# Altium integrated library Resistors.IntLib: 47 symbols
Pins are listed as number, name and electrical type; pins without a type are passive.

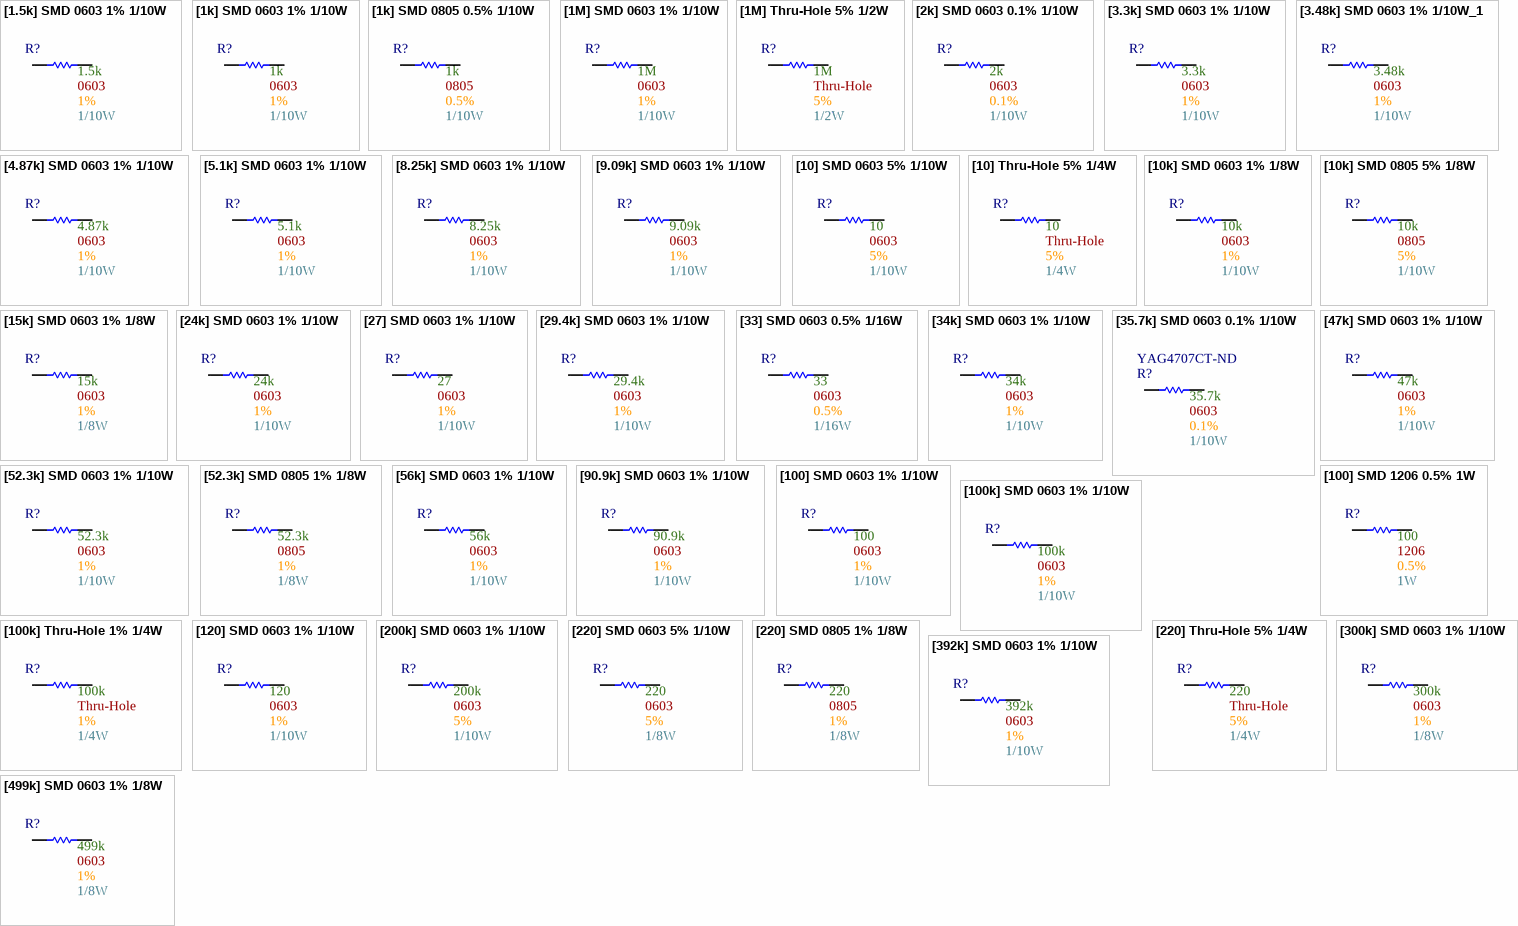
[diagram p0: symbols [1.5k] SMD 0603 1% 1/10W to [499k] SMD 0603 1% 1/8W]

## [1.5k] SMD 0603 1% 1/10W
designator R?  Wattage: 1/10W  Tolerance: 1%  Resistance: 1.5k  Size Package: 0603  (hidden comment: *)
CR0603-FX-1501ELF; Supplier 1: DigiKey; Supplier Part Number 1: 118-CR0603-FX-1501ELFCT-ND
footprint [Res] SMD 0603
pins: 1, 2

## [1k] SMD 0603 1% 1/10W
designator R?  Wattage: 1/10W  Tolerance: 1%  Resistance: 1k  Size Package: 0603  (hidden comment: *)
RMCF0603FT1K00; Supplier 1: DigiKey; Supplier Part Number 1: RMCF0603FT1K00DKR-ND
footprint [Res] SMD 0603
pins: 1, 2

## [1k] SMD 0805 0.5% 1/10W
designator R?  Wattage: 1/10W  Tolerance: 0.5%  Resistance: 1k  Size Package: 0805  (hidden comment: *)
RR1220P-102-D; Supplier 1: DigiKey; Supplier Part Number 1: RR12P1.0KDCT-ND
footprint [Res] SMD 0805
pins: 1, 2

## [1M] SMD 0603 1% 1/10W
designator R?  Wattage: 1/10W  Tolerance: 1%  Resistance: 1M  Size Package: 0603  (hidden comment: *)
RC0603FR-071ML; Supplier 1: DigiKey; Supplier Part Number 1: 311-1.00MHRDKR-ND
footprint [Res] SMD 0603
pins: 1, 2

## [1M] Thru-Hole 5% 1/2W
designator R?  Size Package: Thru-Hole  Wattage: 1/2W  Tolerance: 5%  Resistance: 1M  (hidden comment: *)
CFR-50JB-52-1M; Supplier 1: DigiKey; Supplier Part Number 1: 1.0MH-ND
footprint [Res] Thru-Hole 1/2W
pins: 1, 2

## [2k] SMD 0603 0.1% 1/10W
designator R?  Wattage: 1/10W  Tolerance: 0.1%  Resistance: 2k  Size Package: 0603  (hidden comment: *)
ERA-3ARB202V; Supplier 1: DigiKey; Supplier Part Number 1: P2.0KBDCT-ND
footprint [Res] SMD 0603
pins: 1, 2

## [3.3k] SMD 0603 1% 1/10W
designator R?  Wattage: 1/10W  Tolerance: 1%  Resistance: 3.3k  Size Package: 0603  (hidden comment: *)
RC0603FR-073K3L; Supplier 1: DigiKey; Supplier Part Number 1: 311-3.30KHRCT-ND
footprint [Res] SMD 0603
pins: 1, 2

## [3.48k] SMD 0603 1% 1/10W_1
designator R?  Wattage: 1/10W  Tolerance: 1%  Resistance: 3.48k  Size Package: 0603  (hidden comment: *)
RMCF0603FT3K48; Supplier 1: DigiKey; Supplier Part Number 1: RMCF0603FT3K48CT-ND
footprint [Res] SMD 0603
pins: 1, 2

## [4.87k] SMD 0603 1% 1/10W
designator R?  Wattage: 1/10W  Tolerance: 1%  Resistance: 4.87k  Size Package: 0603  (hidden comment: *)
CR0603-FX-4871ELF; Supplier 1: DigiKey; Supplier Part Number 1: CR0603-FX-4871ELFDKR-ND
footprint [Res] SMD 0603
pins: 1, 2

## [5.1k] SMD 0603 1% 1/10W
designator R?  Wattage: 1/10W  Tolerance: 1%  Resistance: 5.1k  Size Package: 0603  (hidden comment: *)
RC0603FR-075K1L; Supplier 1: DigiKey; Supplier Part Number 1: 311-5.10KHRCT-ND
footprint [Res] SMD 0603
pins: 1, 2

## [8.25k] SMD 0603 1% 1/10W
designator R?  Wattage: 1/10W  Tolerance: 1%  Resistance: 8.25k  Size Package: 0603  (hidden comment: *)
AF0603FR-078K25L; Supplier 1: DigiKey; Supplier Part Number 1: 13-AF0603FR-078K25LCT-ND
footprint [Res] SMD 0603
pins: 1, 2

## [9.09k] SMD 0603 1% 1/10W
designator R?  Wattage: 1/10W  Tolerance: 1%  Resistance: 9.09k  Size Package: 0603  (hidden comment: *)
RMCF0603FT9K09; Supplier 1: DigiKey; Supplier Part Number 1: RMCF0603FT9K09CT-ND
footprint [Res] SMD 0603
pins: 1, 2

## [10] SMD 0603 5% 1/10W
designator R?  Wattage: 1/10W  Tolerance: 5%  Resistance: 10  Size Package: 0603  (hidden comment: *)
RC0603JR-1310RL; Supplier 1: DigiKey; Supplier Part Number 1: 13-RC0603JR-1310RLDKR-ND
footprint [Res] SMD 0603
pins: 1, 2

## [10] Thru-Hole 5% 1/4W
designator R?  Size Package: Thru-Hole  Wattage: 1/4W  Tolerance: 5%  Resistance: 10  (hidden comment: *)
CFR-25JT-52-10R; Supplier 1: DigiKey; Supplier Part Number 1: 13-CFR-25JT-52-10RCT-ND
footprint [Res] Thru-Hole 1/4W
pins: 1, 2

## [10k] SMD 0603 1% 1/8W
designator R?  Wattage: 1/10W  Tolerance: 1%  Resistance: 10k  Size Package: 0603  (hidden comment: *)
RMCF0603FT10K0; Supplier 1: DigiKey; Supplier Part Number 1: RMCF0603FT10K0DKR-ND
footprint [Res] SMD 0603
pins: 1, 2

## [10k] SMD 0805 5% 1/8W
designator R?  Wattage: 1/10W  Tolerance: 5%  Resistance: 10k  Size Package: 0805  (hidden comment: *)
RC0603FR-0710KL; Supplier 1: DigiKey; Supplier Part Number 1: 311-10.0KHRDKR-ND
footprint [Res] SMD 0805
pins: 1, 2

## [15k] SMD 0603 1% 1/8W
designator R?  Wattage: 1/8W  Tolerance: 1%  Resistance: 15k  Size Package: 0603  (hidden comment: *)
CRCW060315K0FKEA; Supplier 1: DigiKey; Supplier Part Number 1: 541-15.0KHCT-ND
footprint [Res] SMD 0603
pins: 1, 2

## [24k] SMD 0603 1% 1/10W
designator R?  Wattage: 1/10W  Tolerance: 1%  Resistance: 24k  Size Package: 0603  (hidden comment: *)
RC0603FR-1324KL; Supplier 1: DigiKey; Supplier Part Number 1: 13-RC0603FR-1324KLCT-ND
footprint [Res] SMD 0603
pins: 1, 2

## [27] SMD 0603 1% 1/10W
designator R?  Wattage: 1/10W  Tolerance: 1%  Resistance: 27  Size Package: 0603  (hidden comment: *)
MCT06030C2709FP500; Supplier 1: DigiKey; Supplier Part Number 1: 749-1631-1-ND
footprint [Res] SMD 0603
pins: 1, 2

## [29.4k] SMD 0603 1% 1/10W
designator R?  Wattage: 1/10W  Tolerance: 1%  Resistance: 29.4k  Size Package: 0603  (hidden comment: *)
CR0603-FX-2942ELF; Supplier 1: DigiKey; Supplier Part Number 1: 118-CR0603-FX-2942ELFDKR-ND
footprint [Res] SMD 0603
pins: 1, 2

## [33] SMD 0603 0.5% 1/16W
designator R?  Wattage: 1/16W  Tolerance: 0.5%  Resistance: 33  Size Package: 0603  (hidden comment: *)
RR0816Q-330-D; Supplier 1: DigiKey; Supplier Part Number 1: RR08Q33DDKR-ND
footprint [Res] SMD 0603
pins: 1, 2

## [34k] SMD 0603 1% 1/10W
designator R?  Wattage: 1/10W  Tolerance: 1%  Resistance: 34k  Size Package: 0603  (hidden comment: *)
RC0603FR-1334KL; Supplier 1: DigiKey; Supplier Part Number 1: 13-RC0603FR-1334KLDKR-ND
footprint [Res] SMD 0603
pins: 1, 2

## [35.7k] SMD 0603 0.1% 1/10W
designator R?  Wattage: 1/10W  Tolerance: 0.1%  Resistance: 35.7k  Size Package: 0603  Supplier Part Number 1: YAG4707CT-ND  (hidden comment: *)
RT0603BRE0735K7L; Supplier 1: DigiKey
footprint [Res] SMD 0603
pins: 1, 2

## [47k] SMD 0603 1% 1/10W
designator R?  Wattage: 1/10W  Tolerance: 1%  Resistance: 47k  Size Package: 0603  (hidden comment: *)
RC0603FR-0747KL; Supplier 1: DigiKey; Supplier Part Number 1: 311-47.0KHRDKR-ND
footprint [Res] SMD 0603
pins: 1, 2

## [52.3k] SMD 0603 1% 1/10W
designator R?  Wattage: 1/10W  Tolerance: 1%  Resistance: 52.3k  Size Package: 0603  (hidden comment: *)
RC0603FR-0752K3L; Supplier 1: DigiKey; Supplier Part Number 1: 311-52.3KHRCT-ND
footprint [Res] SMD 0603
pins: 1, 2

## [52.3k] SMD 0805 1% 1/8W
designator R?  Size Package: 0805  Wattage: 1/8W  Tolerance: 1%  Resistance: 52.3k  (hidden comment: *)
RC0805FR-0752K3L; Supplier 1: DigiKey; Supplier Part Number 1: 311-52.3KCRCT-ND
footprint [Res] SMD 0805
pins: 1, 2

## [56k] SMD 0603 1% 1/10W
designator R?  Wattage: 1/10W  Tolerance: 1%  Resistance: 56k  Size Package: 0603  (hidden comment: *)
CRGCQ0603F56K; Supplier 1: DigiKey; Supplier Part Number 1: A129709CT-ND
footprint [Res] SMD 0603
pins: 1, 2

## [90.9k] SMD 0603 1% 1/10W
designator R?  Wattage: 1/10W  Tolerance: 1%  Resistance: 90.9k  Size Package: 0603  (hidden comment: *)
CR0603-FX-9092ELF; Supplier 1: DigiKey; Supplier Part Number 1: CR0603-FX-9092ELFCT-ND
footprint [Res] SMD 0603
pins: 1, 2

## [100] SMD 0603 1% 1/10W
designator R?  Wattage: 1/10W  Tolerance: 1%  Resistance: 100  Size Package: 0603  (hidden comment: *)
RC0603FR-07100RL; Supplier 1: DigiKey; Supplier Part Number 1: 311-100HRDKR-ND
footprint [Res] SMD 0603
pins: 1, 2

## [100] SMD 1206 0.5% 1W
designator R?  Wattage: 1W  Tolerance: 0.5%  Resistance: 100  Size Package: 1206  (hidden comment: *)
HRG3216P-1000-D-T1; Supplier 1: DigiKey; Supplier Part Number 1: 408-1865-1-ND
footprint [Res] SMD 1206
pins: 1, 2

## [100k] SMD 0603 1% 1/10W
designator R?  Wattage: 1/10W  Tolerance: 1%  Resistance: 100k  Size Package: 0603  (hidden comment: *)
RC0603FR-07100KL; Supplier 1: DigiKey; Supplier Part Number 1: 311-100KHRDKR-ND
footprint [Res] SMD 0603
pins: 1, 2

## [100k] Thru-Hole 1% 1/4W
designator R?  Size Package: Thru-Hole  Wattage: 1/4W  Tolerance: 1%  Resistance: 100k  (hidden comment: *)
MFR-25FTF52-100K; Supplier 1: DigiKey; Supplier Part Number 1: 13-MFR-25FTF52-100KCT-ND
footprint [Res] Thru-Hole 1/4W
pins: 1, 2

## [120] SMD 0603 1% 1/10W
designator R?  Wattage: 1/10W  Tolerance: 1%  Resistance: 120  Size Package: 0603  (hidden comment: *)
RC0603FR-07120RL; Supplier 1: DigiKey; Supplier Part Number 1: 311-120HRDKR-ND
footprint [Res] SMD 0603
pins: 1, 2

## [200k] SMD 0603 1% 1/10W
designator R?  Wattage: 1/10W  Tolerance: 5%  Resistance: 200k  Size Package: 0603  (hidden comment: *)
RC0603JR-07200KL; Supplier 1: DigiKey; Supplier Part Number 1: 311-200KGRCT-ND
footprint [Res] SMD 0603
pins: 1, 2

## [220] SMD 0603 5% 1/10W
designator R?  Wattage: 1/8W  Tolerance: 5%  Resistance: 220  Size Package: 0603  (hidden comment: *)
RK73B1JTTD221J; Supplier 1: DigiKey; Supplier Part Number 1: 2019-RK73B1JTTD221JDKR-ND
footprint [Res] SMD 0603
pins: 1, 2

## [220] SMD 0805 1% 1/8W
designator R?  Wattage: 1/8W  Tolerance: 1%  Resistance: 220  Size Package: 0805  (hidden comment: *)
RC0603FR-07220RL; Supplier 1: DigiKey; Supplier Part Number 1: 311-220HRCT-ND
footprint [Res] SMD 0805
pins: 1, 2

## [220] Thru-Hole 5% 1/4W
designator R?  Size Package: Thru-Hole  Wattage: 1/4W  Tolerance: 5%  Resistance: 220  (hidden comment: *)
CFR-25JR-52-220R; Supplier 1: DigiKey; Supplier Part Number 1: 13-CFR-25JR-52-220RCT-ND
footprint [Res] Thru-Hole 1/4W
pins: 1, 2

## [300k] SMD 0603 1% 1/10W
designator R?  Wattage: 1/8W  Tolerance: 1%  Resistance: 300k  Size Package: 0603  (hidden comment: *)
CRCW0603300KFKEA; Supplier 1: DigiKey; Supplier Part Number 1: 541-300KHCT-ND
footprint [Res] SMD 0603
pins: 1, 2

## [392k] SMD 0603 1% 1/10W
designator R?  Wattage: 1/10W  Tolerance: 1%  Resistance: 392k  Size Package: 0603  (hidden comment: *)
CR0603-FX-3923ELF; Supplier 1: DigiKey; Supplier Part Number 1: 118-CR0603-FX-3923ELFCT-ND
footprint [Res] SMD 0603
pins: 1, 2

## [499k] SMD 0603 1% 1/8W
designator R?  Wattage: 1/8W  Tolerance: 1%  Resistance: 499k  Size Package: 0603  (hidden comment: *)
CRCW0603499KFKEA; Supplier 1: DigiKey; Supplier Part Number 1: 541-499KHDKR-ND
footprint [Res] SMD 0603
pins: 1, 2

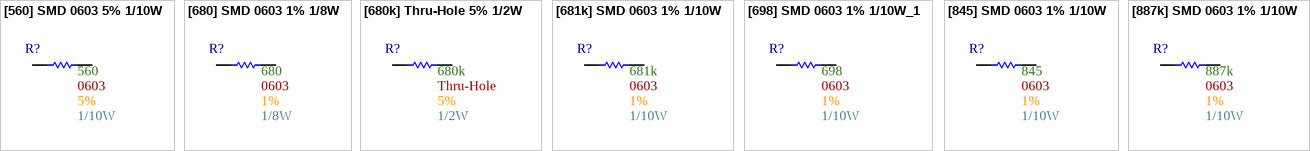
[diagram p1: symbols [560] SMD 0603 5% 1/10W to [887k] SMD 0603 1% 1/10W]

## [560] SMD 0603 5% 1/10W
designator R?  Wattage: 1/10W  Tolerance: 5%  Resistance: 560  Size Package: 0603  (hidden comment: *)
RC0603JR-07560RL; Supplier 1: DigiKey; Supplier Part Number 1: 311-560GRDKR-ND
footprint [Res] SMD 0603
pins: 1, 2

## [680] SMD 0603 1% 1/8W
designator R?  Wattage: 1/8W  Tolerance: 1%  Resistance: 680  Size Package: 0603  (hidden comment: *)
CRCW0603680RFKEA; Supplier 1: DigiKey; Supplier Part Number 1: 541-680HCT-ND
footprint [Res] SMD 0603
pins: 1, 2

## [680k] Thru-Hole 5% 1/2W
designator R?  Size Package: Thru-Hole  Wattage: 1/2W  Tolerance: 5%  Resistance: 680k  (hidden comment: *)
CFR-50JB-52-680K; Supplier 1: DigiKey; Supplier Part Number 1: 13-CFR-50JB-52-680K-ND
footprint [Res] Thru-Hole 1/2W
pins: 1, 2

## [681k] SMD 0603 1% 1/10W
designator R?  Wattage: 1/10W  Tolerance: 1%  Resistance: 681k  Size Package: 0603  (hidden comment: *)
RT0603FRE07681KL; Supplier 1: DigiKey; Supplier Part Number 1: 13-RT0603FRE07681KLCT-ND
footprint [Res] SMD 0603
pins: 1, 2

## [698] SMD 0603 1% 1/10W_1
designator R?  Wattage: 1/10W  Tolerance: 1%  Resistance: 698  Size Package: 0603  (hidden comment: *)
RMCF0603FT698R; Supplier 1: DigiKey; Supplier Part Number 1: RMCF0603FT698RCT-ND
footprint [Res] SMD 0603
pins: 1, 2

## [845] SMD 0603 1% 1/10W
designator R?  Wattage: 1/10W  Tolerance: 1%  Resistance: 845  Size Package: 0603  (hidden comment: *)
RC0603FR-07845RL; Supplier 1: DigiKey; Supplier Part Number 1: 311-845HRCT-ND
footprint [Res] SMD 0603
pins: 1, 2

## [887k] SMD 0603 1% 1/10W
designator R?  Wattage: 1/10W  Tolerance: 1%  Resistance: 887k  Size Package: 0603  (hidden comment: *)
CR0603-FX-8873ELF; Supplier 1: DigiKey; Supplier Part Number 1: 118-CR0603-FX-8873ELFCT-ND
footprint [Res] SMD 0603
pins: 1, 2